# EAGLE library part PIC24FJ128GA202-QFN-S (library JK-microcontrollers)
PIC24FJ128GA202 microcontroller in a QFN-S package
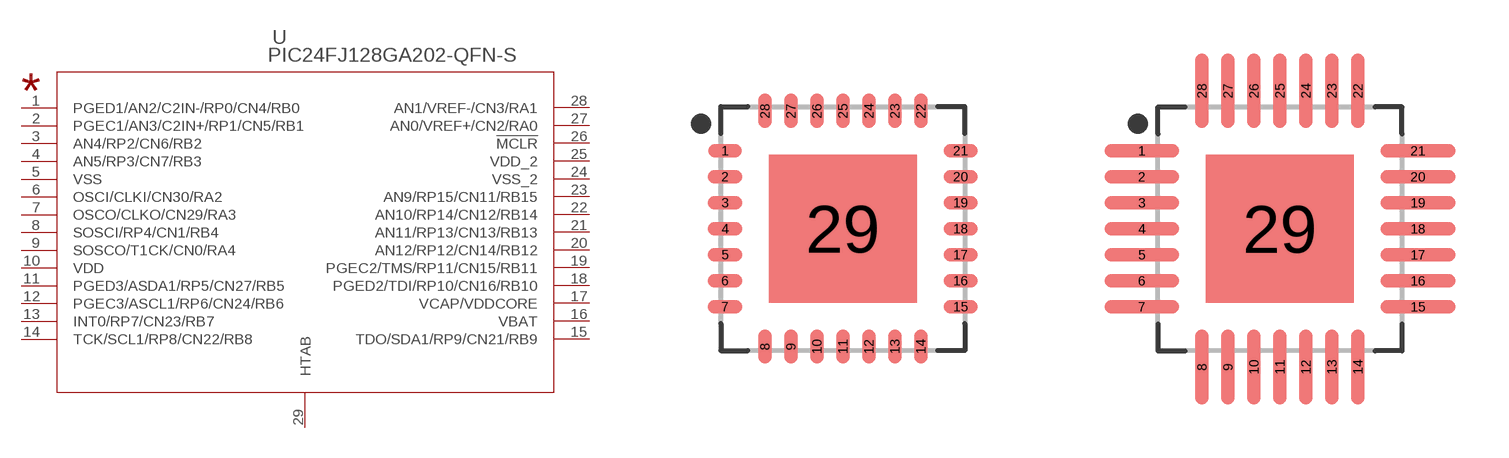
[diagram p2: symbol with the pads of QFN-S-MPIN; footprints QFN-S-MPIN, QFN-S-LPIN]

Designator prefix -

## PIC24FJ128GA202-QFN-S (MANUFACTURER: Microchip)  [QFN-S-MPIN]
1  PGED1/AN2/C2IN-/RP0/CN4/RB0  pas
2  PGEC1/AN3/C2IN+/RP1/CN5/RB1  pas
3  AN4/RP2/CN6/RB2  pas
4  AN5/RP3/CN7/RB3  pas
5  VSS  pas
6  OSCI/CLKI/CN30/RA2  pas
7  OSCO/CLKO/CN29/RA3  pas
8  SOSCI/RP4/CN1/RB4  pas
9  SOSCO/T1CK/CN0/RA4  pas
10  VDD  pas
11  PGED3/ASDA1/RP5/CN27/RB5  pas
12  PGEC3/ASCL1/RP6/CN24/RB6  pas
13  INT0/RP7/CN23/RB7  pas
14  TCK/SCL1/RP8/CN22/RB8  pas
15  TDO/SDA1/RP9/CN21/RB9  pas
16  VBAT  pas
17  VCAP/VDDCORE  pas
18  PGED2/TDI/RP10/CN16/RB10  pas
19  PGEC2/TMS/RP11/CN15/RB11  pas
20  AN12/RP12/CN14/RB12  pas
21  AN11/RP13/CN13/RB13  pas
22  AN10/RP14/CN12/RB14  pas
23  AN9/RP15/CN11/RB15  pas
24  VSS_2  pas
25  VDD_2  pas
26  !MCLR  pas
27  AN0/VREF+/CN2/RA0  pas
28  AN1/VREF-/CN3/RA1  pas
29  HTAB  pas

## PIC24FJ128GA202-QFN-SLPIN (GENERATOR: Jake Kapala; MANUFACTURER: Microchip; PACKAGE: QFN-S; PINS: 28; VIN: 3.3V)  [QFN-S-LPIN]
Pads as for QFN-S-MPIN

## Footprint QFN-S-MPIN (pad centres in mm)
28-QFN, 0.65 mm pitch, 6.05 X 6.05 X 1.00 mm body, 3.70 X 3.70 mm thermal pad 28-pin QFN package with 0.65 mm pitch with body size 6.05 X 6.05 X 1.00 mm and thermal pad size 3.70 X 3.70 mm
smd 0.838 x 0.343: 1 -2.945,1.95
smd 0.864 x 0.343: 2 -2.945,1.3; 3 -2.945,0.65; 4 -2.945,0; 5 -2.945,-0.65; 6 -2.945,-1.3; 7 -2.945,-1.95; 15 2.945,-1.95; 16 2.945,-1.3; 17 2.945,-0.65; 18 2.945,0; 19 2.945,0.65; 20 2.945,1.3; 21 2.945,1.95
smd 0.343 x 0.864: 8 -1.95,-2.945; 9 -1.3,-2.945; 10 -0.65,-2.945; 11 0,-2.945; 12 0.65,-2.945; 13 1.3,-2.945; 14 1.95,-2.945; 22 1.95,2.945; 23 1.3,2.945; 24 0.65,2.945; 25 0,2.945; 26 -0.65,2.945; 27 -1.3,2.945; 28 -1.95,2.945
smd 3.7 x 3.7: 29 0,0

## Footprint QFN-S-LPIN (pad centres in mm)
smd 1.88 x 0.343: 1 -3.453,1.95; 2 -3.453,1.3; 3 -3.453,0.65; 4 -3.453,0; 5 -3.453,-0.65; 6 -3.453,-1.3; 7 -3.453,-1.95; 15 3.453,-1.95; 16 3.453,-1.3; 17 3.453,-0.65; 18 3.453,0; 19 3.453,0.65; 20 3.453,1.3; 21 3.453,1.95
smd 0.343 x 1.88: 8 -1.95,-3.453; 9 -1.3,-3.453; 10 -0.65,-3.453; 11 0,-3.453; 12 0.65,-3.453; 13 1.3,-3.453; 14 1.95,-3.453; 22 1.95,3.453; 23 1.3,3.453; 24 0.65,3.453; 25 0,3.453; 26 -0.65,3.453; 27 -1.3,3.453; 28 -1.95,3.453
smd 3.7 x 3.7: 29 0,0